# Altium footprint library PcbLibSensors.PcbLib: 14 footprints
Each footprint in its own frame and in the unit in brackets; x right, y up, seen from the top. Pads: shape width x height; smd on the part's side, far side on the other; paste and mask are expansions set on the pad; w line width, h text height; cw(c..) or ccw(c..) is an arc to the next point about the centre after c.
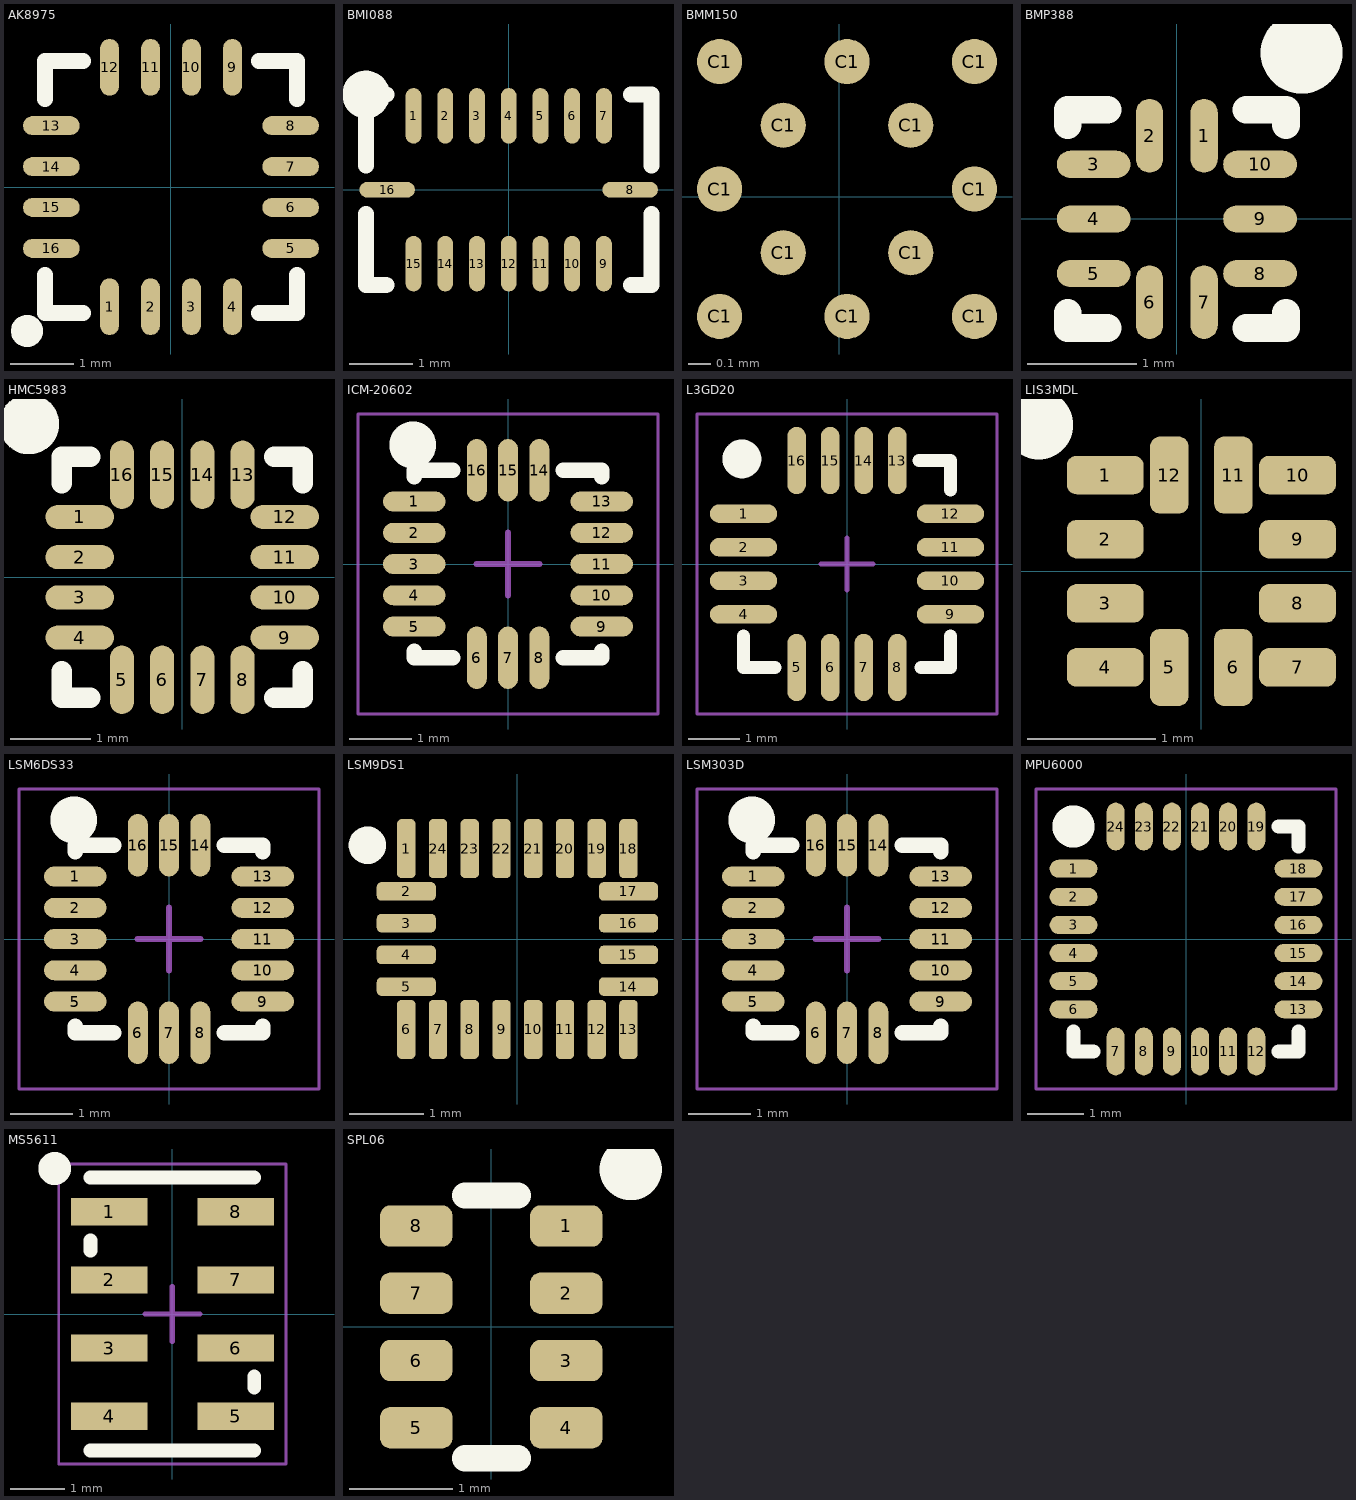
[diagram p0: the footprints below, top view; thin cyan lines are the x and y axes]

## AK8975 [mm]
pads (16):
  oval 0.3x0.9 smd: 1(-0.975,-1.9) 2(-0.325,-1.9) 3(0.325,-1.9) 4(0.975,-1.9) 9(0.975,1.9) 10(0.325,1.9) 11(-0.325,1.9) 12(-0.975,1.9)
  oval 0.9x0.3 smd: 5(1.9,-0.975) 6(1.9,-0.325) 7(1.9,0.325) 8(1.9,0.975) 13(-1.9,0.975) 14(-1.9,0.325) 15(-1.9,-0.325) 16(-1.9,-0.975)
Top Overlay:
  circle w0.254: c-2.286,-2.286 r0.127
  lines w0.254: -2,-1.4 -2,-2 -1.4,-2 ; -2,1.4 -2,2 -1.4,2 ; 1.4,-2 2,-2 2,-1.4 ; 1.4,2 2,2 2,1.4
3D body: height 0.75, standoff 0, extent -2,-2 2,2

## BMI088 [mm]
pads (16):
  oval 0.25x0.875 smd: 1(-1.5,1.165) 2(-1,1.165) 3(-0.5,1.165) 4(0,1.165) 5(0.5,1.165) 6(1,1.165) 7(1.5,1.165) 9(1.5,-1.165) 10(1,-1.165) 11(0.5,-1.165) 12(0,-1.165) 13(-0.5,-1.165) 14(-1,-1.165) 15(-1.5,-1.165)
  oval 0.875x0.25 smd: 8(1.915,0) 16(-1.915,0)
Top Overlay:
  circle w0.5: c-2.25,1.5 r0.125
  lines w0.254: -2.25,-0.381 -2.25,-1.5 -1.929,-1.5 ; -2.25,0.381 -2.25,1.5 -1.929,1.5 ; 1.929,-1.5 2.25,-1.5 2.25,-0.381 ; 1.929,1.5 2.25,1.5 2.25,0.381
3D body: height 0.95, standoff 0, extent -2.25,-1.5 2.25,1.5

## BMM150 [mm]
pads (12):
  round 0.2 smd: C1(-0.531,-0.53) C1(-0.531,0.035) C1(-0.531,0.601) C1(-0.248,-0.248) C1(-0.248,0.318) C1(0.035,-0.53) C1(0.035,0.601) C1(0.318,-0.248) C1(0.318,0.318) C1(0.601,-0.53) C1(0.601,0.035) C1(0.601,0.601)

## BMP388 [mm]
pads (10):
  oval 0.25x0.675 smd: 1(0.25,0.763) 2(-0.25,0.763) 6(-0.25,-0.763) 7(0.25,-0.763)
  oval 0.675x0.25 smd: 3(-0.763,0.5) 4(-0.763,0) 5(-0.763,-0.5) 8(0.763,-0.5) 9(0.763,0) 10(0.763,0.5)
Top Overlay:
  circle w0.5: c1.143,1.524 r0.125
  lines w0.254: -1,-0.86 -1,-1 -0.635,-1 ; -1,0.86 -1,1 -0.635,1 ; 0.635,-1 1,-1 1,-0.86 ; 0.635,1 1,1 1,0.86
3D body "BMP388.stp": height 0.75, standoff 0, extent -1.016,-1 0.984,1

## HMC5983 [mm]
pads (16):
  oval 0.85x0.3 smd: 1(-1.275,0.75) 2(-1.275,0.25) 3(-1.275,-0.25) 4(-1.275,-0.75) 9(1.275,-0.75) 10(1.275,-0.25) 11(1.275,0.25) 12(1.275,0.75)
  oval 0.3x0.85 smd: 5(-0.75,-1.275) 6(-0.25,-1.275) 7(0.25,-1.275) 8(0.75,-1.275) 13(0.75,1.275) 14(0.25,1.275) 15(-0.25,1.275) 16(-0.75,1.275)
Top Overlay:
  circle w0.5: c-1.905,1.905 r0.125
  lines w0.254: -1.5,-1.167 -1.5,-1.5 -1.143,-1.5 ; -1.5,1.167 -1.5,1.5 -1.143,1.5 ; 1.143,-1.5 1.5,-1.5 1.5,-1.167 ; 1.143,1.5 1.5,1.5 1.5,1.167
3D body: height 0.9, standoff 0, extent -1.5,-1.5 1.5,1.5

## ICM-20602 [mm]
pads (16):
  oval 1x0.32 smd: 1(-1.5,1) 2(-1.5,0.5) 3(-1.5,0) 4(-1.5,-0.5) 5(-1.5,-1) 9(1.5,-1) 10(1.5,-0.5) 11(1.5,0) 12(1.5,0.5) 13(1.5,1)
  oval 0.32x1 smd: 6(-0.5,-1.5) 7(0,-1.5) 8(0.5,-1.5) 14(0.5,1.5) 15(0,1.5) 16(-0.5,1.5)
Top Overlay:
  circle w0.5: c-1.524,1.905 r0.125
  lines w0.254: -1.5,-1.4 -1.5,-1.5 -0.889,-1.5 ; -1.5,1.397 -1.5,1.5 -0.889,1.5 ; 0.889,-1.5 1.5,-1.5 1.5,-1.4 ; 0.889,1.5 1.5,1.5 1.5,1.397
Mechanical 15:
  lines w0.05: -2.4,-2.4 -2.4,2.4 2.4,2.4 2.4,-2.4 -2.4,-2.4
  lines w0.1: -0.5,0 0.5,0 ; 0,-0.5 0,0.5
3D body: height 0.75, standoff 0, extent -1.5,-1.5 1.5,1.5

## L3GD20 [mm]
pads (16):
  oval 1.3x0.36 smd: 1(-2,0.975) 2(-2,0.325) 3(-2,-0.325) 4(-2,-0.975) 9(2,-0.975) 10(2,-0.325) 11(2,0.325) 12(2,0.975)
  oval 0.36x1.3 smd: 5(-0.975,-2) 6(-0.325,-2) 7(0.325,-2) 8(0.975,-2) 13(0.975,2) 14(0.325,2) 15(-0.325,2) 16(-0.975,2)
Top Overlay:
  circle w0.5: c-2.032,2.032 r0.125
  lines w0.254: -2,-1.397 -2,-2 -1.397,-2 ; 1.397,2 2,2 2,1.429 ; 1.429,-2 2,-2 2,-1.397
Mechanical 15:
  lines w0.05: -2.9,-2.9 -2.9,2.9 2.9,2.9 2.9,-2.9 -2.9,-2.9
  lines w0.1: -0.5,0 0.5,0 ; 0,-0.5 0,0.5

## LIS3MDL [mm]
pads (12):
  rrect50% 0.6x0.3 smd: 1(-0.75,0.75) 2(-0.75,0.25) 3(-0.75,-0.25) 4(-0.75,-0.75) 7(0.75,-0.75) 8(0.75,-0.25) 9(0.75,0.25) 10(0.75,0.75)
  rrect50% 0.3x0.6 smd: 5(-0.25,-0.75) 6(0.25,-0.75) 11(0.25,0.75) 12(-0.25,0.75)
Top Overlay:
  circle w0.5: c-1.27,1.143 r0.02
3D body: height 0.78, standoff 0, extent -1,-1 1,1

## LSM6DS33 [mm]
pads (16):
  oval 1x0.32 smd: 1(-1.5,1) 2(-1.5,0.5) 3(-1.5,0) 4(-1.5,-0.5) 5(-1.5,-1) 9(1.5,-1) 10(1.5,-0.5) 11(1.5,0) 12(1.5,0.5) 13(1.5,1)
  oval 0.32x1 smd: 6(-0.5,-1.5) 7(0,-1.5) 8(0.5,-1.5) 14(0.5,1.5) 15(0,1.5) 16(-0.5,1.5)
Top Overlay:
  circle w0.5: c-1.524,1.905 r0.125
  lines w0.254: -1.5,-1.4 -1.5,-1.5 -0.889,-1.5 ; -1.5,1.397 -1.5,1.5 -0.889,1.5 ; 0.889,-1.5 1.5,-1.5 1.5,-1.4 ; 0.889,1.5 1.5,1.5 1.5,1.397
Mechanical 15:
  lines w0.05: -2.4,-2.4 2.4,-2.4 2.4,2.4 -2.4,2.4 -2.4,-2.4
  lines w0.1: -0.5,0 0.5,0 ; 0,-0.5 0,0.5
3D body: height 0.75, standoff 0, extent -1.5,-1.5 1.5,1.5

## LSM9DS1 [mm]
pads (24):
  rrect50% 0.25x0.8 smd: 1(-1.505,1.225) 6(-1.505,-1.225) 7(-1.075,-1.225) 8(-0.645,-1.225) 9(-0.215,-1.225) 10(0.215,-1.225) 11(0.645,-1.225) 12(1.075,-1.225) 13(1.505,-1.225) 18(1.505,1.225) 19(1.075,1.225) 20(0.645,1.225) 21(0.215,1.225) 22(-0.215,1.225) 23(-0.645,1.225) 24(-1.075,1.225)
  rrect50% 0.8x0.25 smd: 2(-1.505,0.645) 3(-1.505,0.215) 4(-1.505,-0.215) 5(-1.505,-0.645) 14(1.505,-0.645) 15(1.505,-0.215) 16(1.505,0.215) 17(1.505,0.645)
Top Overlay:
  circle w0.254: c-2.032,1.27 r0.127
3D body: height 1, standoff 0, extent -1.778,-1.524 1.778,1.524

## LSM303D [mm]
pads (16):
  oval 1x0.32 smd: 1(-1.5,1) 2(-1.5,0.5) 3(-1.5,0) 4(-1.5,-0.5) 5(-1.5,-1) 9(1.5,-1) 10(1.5,-0.5) 11(1.5,0) 12(1.5,0.5) 13(1.5,1)
  oval 0.32x1 smd: 6(-0.5,-1.5) 7(0,-1.5) 8(0.5,-1.5) 14(0.5,1.5) 15(0,1.5) 16(-0.5,1.5)
Top Overlay:
  circle w0.5: c-1.524,1.905 r0.125
  lines w0.254: -1.5,-1.4 -1.5,-1.5 -0.889,-1.5 ; -1.5,1.397 -1.5,1.5 -0.889,1.5 ; 0.889,-1.5 1.5,-1.5 1.5,-1.4 ; 0.889,1.5 1.5,1.5 1.5,1.397
Mechanical 15:
  lines w0.05: -2.4,-2.4 2.4,-2.4 2.4,2.4 -2.4,2.4 -2.4,-2.4
  lines w0.1: -0.5,0 0.5,0 ; 0,-0.5 0,0.5
3D body: height 0.75, standoff 0, extent -1.5,-1.5 1.5,1.5

## MPU6000 [mm]
pads (24):
  oval 0.85x0.32 smd: 1(-2,1.25) 2(-2,0.75) 3(-2,0.25) 4(-2,-0.25) 5(-2,-0.75) 6(-2,-1.25) 13(2,-1.25) 14(2,-0.75) 15(2,-0.25) 16(2,0.25) 17(2,0.75) 18(2,1.25)
  oval 0.32x0.85 smd: 7(-1.25,-2) 8(-0.75,-2) 9(-0.25,-2) 10(0.25,-2) 11(0.75,-2) 12(1.25,-2) 19(1.25,2) 20(0.75,2) 21(0.25,2) 22(-0.25,2) 23(-0.75,2) 24(-1.25,2)
Top Overlay:
  circle w0.5: c-2,2 r0.125
  lines w0.254: -2,-1.651 -2,-2 -1.65,-2 ; 1.65,-2 2,-2 2,-1.651 ; 1.65,2 2,2 2,1.651
Mechanical 15:
  lines w0.05: -2.667,-2.667 -2.667,2.667 2.667,2.667 2.667,-2.667 -2.667,-2.667
3D body: height 0.9, standoff 0, extent -2.032,-2 2,2.032

## MS5611 [mm]
pads (8):
  rect 1.4x0.5 smd: 1(-1.16,1.875) 2(-1.16,0.625) 3(-1.16,-0.625) 4(-1.16,-1.875) 5(1.16,-1.875) 6(1.16,-0.625) 7(1.16,0.625) 8(1.16,1.875)
Top Overlay:
  circle w0.5: c-2.159,2.667 r0.05
  lines w0.254: -1.5,-2.5 1.5,-2.5 ; -1.5,1.167 -1.5,1.35 ; -1.5,2.5 1.5,2.5 ; 1.5,-1.35 1.5,-1.143
Mechanical 15:
  lines w0.05: -2.085,-2.75 -2.085,2.75 2.085,2.75 2.085,-2.75 -2.085,-2.75
  lines w0.1: -0.5,0 0.5,0 ; 0,-0.5 0,0.5
3D body "User Library-ms5611.step": height 1.01, standoff -0.05, extent -1.55,-2.5 1.55,2.5

## SPL06 [mm]
pads (8):
  rrect50% 0.7x0.4 smd: 1(0.725,0.975) 2(0.725,0.325) 3(0.725,-0.325) 4(0.725,-0.975) 5(-0.725,-0.975) 6(-0.725,-0.325) 7(-0.725,0.325) 8(-0.725,0.975)
Top Overlay:
  circle w0.5: c1.347,1.524 r0.05
  lines w0.254: -0.254,-1.27 0.254,-1.27 ; -0.254,1.27 0.254,1.27
3D body "SPL06.stp": height 0.95, standoff 0, extent -1,-1.25 1,1.25